# Altium schematic symbol library SCH - DAC - TI PCM1754.Schlib: 1 symbol
Pins are listed as number, name and electrical type; pins without a type are passive.

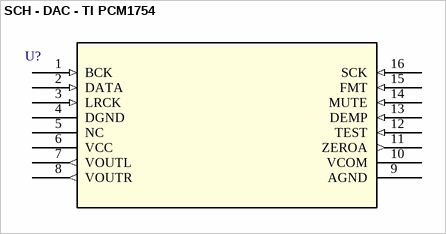
[diagram p0: symbol SCH - DAC - TI PCM1754]

## SCH - DAC - TI PCM1754
designator U?
footprint DBQ16
pins: 1 BCK (in), 2 DATA (in), 3 LRCK (in), 4 DGND (power), 5 NC, 6 VCC (power), 7 VOUTL (out), 8 VOUTR (out), 9 AGND (power), 10 VCOM (power), 11 ZEROA (out), 12 TEST (in), 13 DEMP (in), 14 MUTE (in), 15 FMT (in), 16 SCK (in)